# EAGLE library part 1X06_2.54_BATT (library DECADE-libraries20151104)
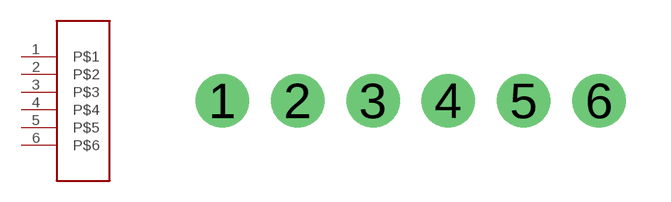
[diagram p126: symbol with the pads of BATT_6PIN; footprint BATT_6PIN]

Designator prefix -

## 1X06_2.54_BATT  [BATT_6PIN]
1  P$1
2  P$2
3  P$3
4  P$4
5  P$5
6  P$6

## Footprint BATT_6PIN (pad centres in mm)
drill 1.2 pad 1.6: 1 0,0; 2 2.54,0; 3 5.08,0; 4 7.62,0; 5 10.16,0; 6 12.7,0